# Altium schematic symbol library 2014-02-12_15-55-34.SchLib: 2 symbols
Pins are listed as number, name and electrical type; pins without a type are passive.

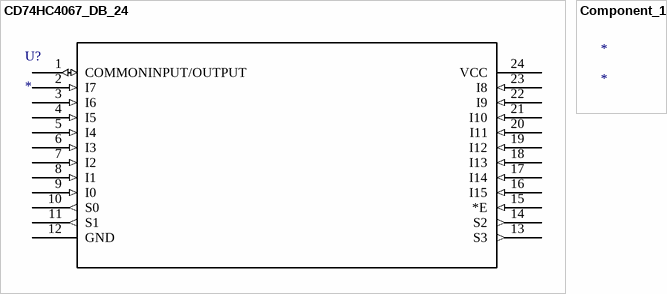
[diagram p0: symbols CD74HC4067_DB_24 to Component_1]

## CD74HC4067_DB_24
designator U?
Imported; Manufacturer: Texas Instruments; GENERIC_PART_NUMBER: CD74HC4067; INDUSTRY_STD_PKG_TYPE: SSOP; FAMILY_NAME: ANALOG SWITCH/MULTIPLEXER(less than or equal to 5V); PIN_COUNT: 24; PACKAGE_DESIGNATOR: DB; Datasheet URL: http://www.ti.com/lit/gpn/CD74HC4067; RefDes: RefDes; Type: DEV; Value: Value
footprint DB24
pins: 1 COMMONINPUT/OUTPUT (io), 2 I7 (in), 3 I6 (in), 4 I5 (in), 5 I4 (in), 6 I3 (in), 7 I2 (in), 8 I1 (in), 9 I0 (in), 10 S0 (out), 11 S1 (out), 12 GND (power), 13 S3 (out), 14 S2 (out), 15 *E (in), 16 I15 (in), 17 I14 (in), 18 I13 (in), 19 I12 (in), 20 I11 (in), 21 I10 (in), 22 I9 (in), 23 I8 (in), 24 VCC (power)

## Component_1
designator *